# EAGLE library part ZXBM5210-S-13 (library ZXBM5210-S-13)
DiodesZetex ZXBM5210-S-13, DC Motor Driver Source: Datasheet <https://rs.componentsearchengine.com/Datasheets/1/ZXBM5210-S-13.pdf>
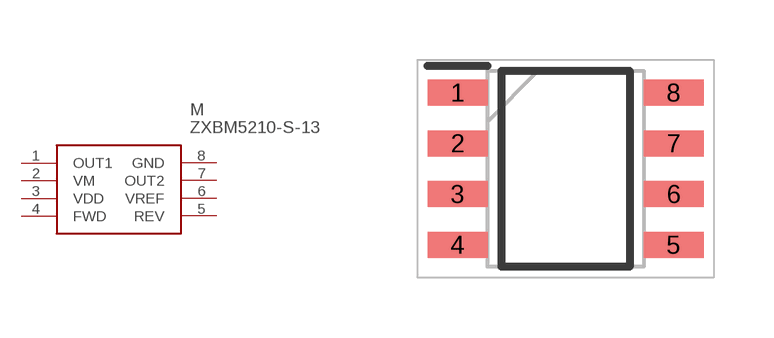
[diagram p0: symbol with the pads of SOIC127P600X175-8N; footprint SOIC127P600X175-8N]

Designator prefix M

## ZXBM5210-S-13 (Description: DiodesZetex ZXBM5210-S-13, DC Motor Driver; Height: 1.75mm; Manufacturer_Name: Diodes Inc.; Manufacturer_Part_Number: ZXBM5210-S-13; Mouser_Part_Number: 621-ZXBM5210-S-13; Mouser_Price-Stock: https://www.mouser.co.uk/ProductDetail/Diodes-Incorporated/ZXBM5210-S-13?qs=98WN%2FnWUQiQlr91Z1%2FDTeg%3D%3D)  [SOIC127P600X175-8N]
1  OUT1  out
2  VM  pwr
3  VDD  pwr
4  FWD  in
5  REV  in
6  VREF  in
7  OUT2  out
8  GND  pwr

## Footprint SOIC127P600X175-8N (pad centres in mm)
SO-8
smd 1.5 x 0.65: 1 -2.7,1.905; 2 -2.7,0.635; 3 -2.7,-0.635; 4 -2.7,-1.905; 5 2.7,-1.905; 6 2.7,-0.635; 7 2.7,0.635; 8 2.7,1.905